# Altium schematic symbol library 2N7002.SCHLIB: 1 symbol
Pins are listed as number, name and electrical type; pins without a type are passive.

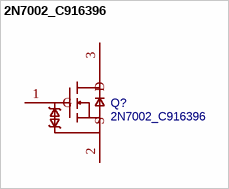
[diagram p0: symbol 2N7002_C916396]

## 2N7002_C916396
designator Q?
BOM_Manufacturer: JSMSEMI(杰盛微); BOM_Manufacturer Part: 2N7002; Contributor: LCSC; BOM_Supplier: LCSC; BOM_Supplier Part: C916396; BOM_JLCPCB Part Class: Extended Part; spicePre: Q; spiceSymbolName: 2N7002_C916396
footprint SOT-23-3_L2.9-W1.3-P1.90-LS2.4-BR
pins: 1 G, 2 S, 3 D